# Altium integrated library Linear Technology Power Management LDO Linear Regulators.IntLib: 2339 symbols (part 22 of 131)
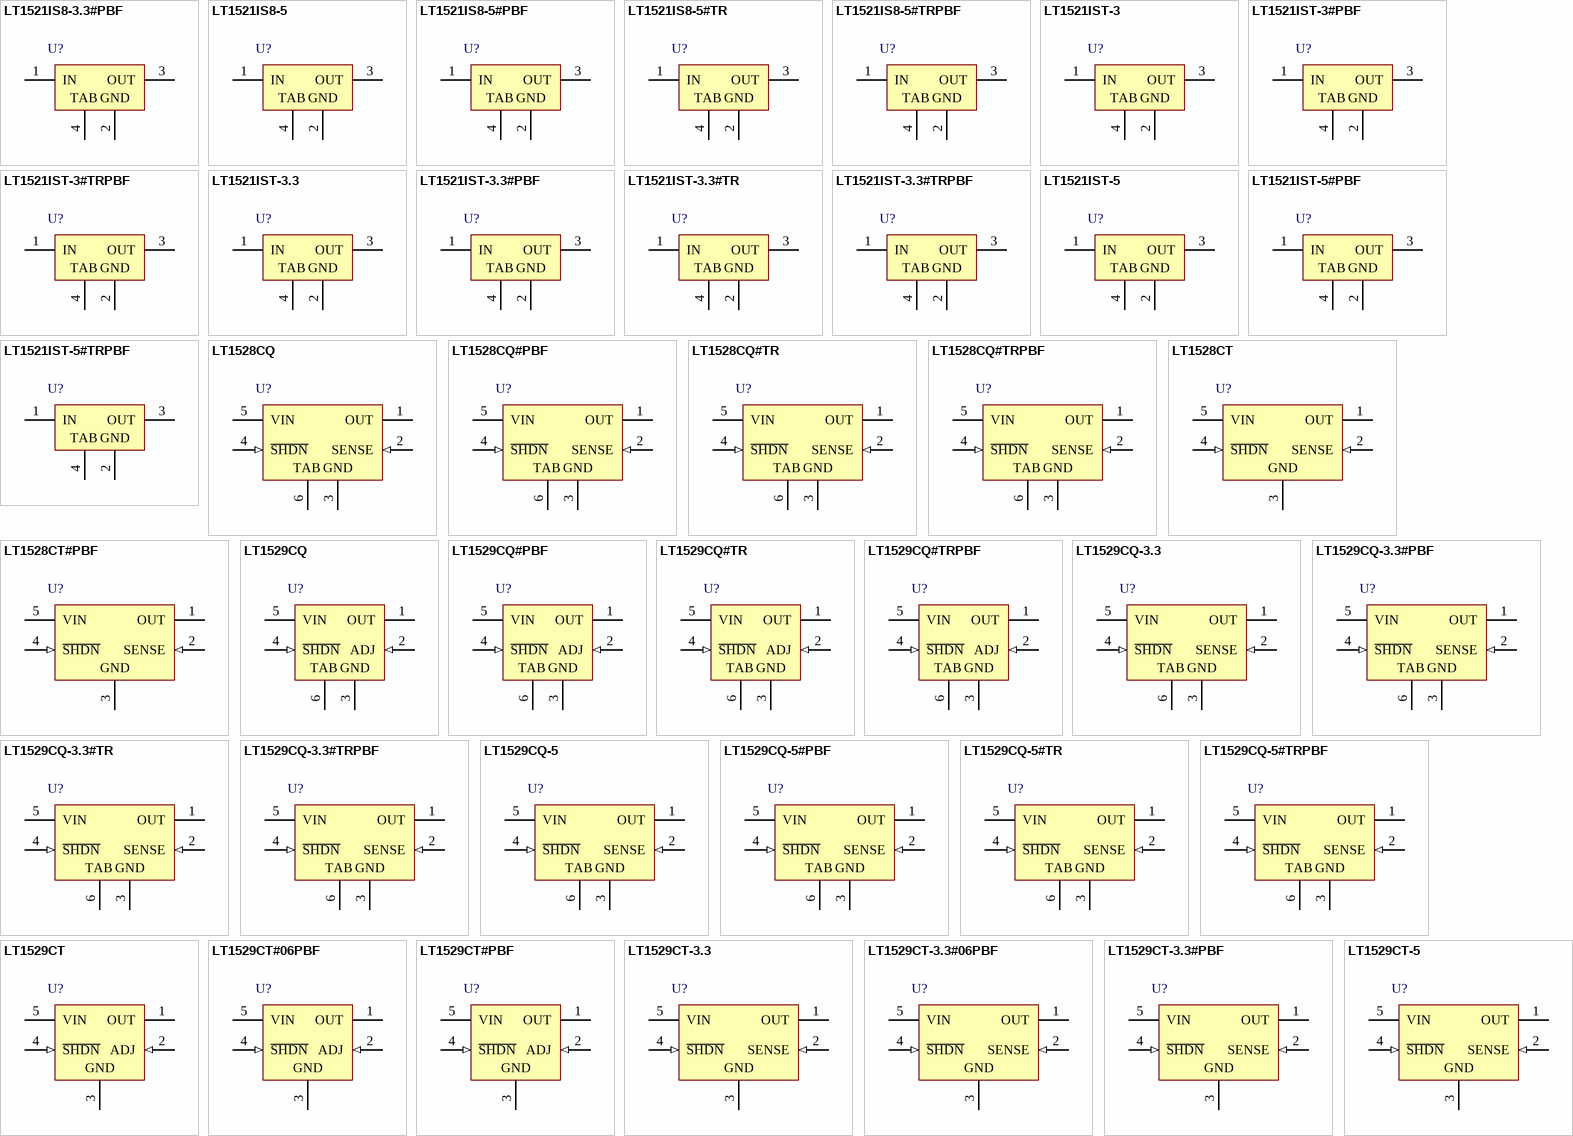
[diagram p90: symbols LT1521IS8-3.3#PBF to LT1529CT-5]

## LT1528CQ#PBF
designator U?
3 A Low Dropout Regulator for Microprocessor Applications, 3.9 to 15 V Vin, 3.3 Vout, 5-pin DPAK (Q-5), 0 to 125 degC, Pb-Free; Manufacturer: Linear Technology; PartNumber: LT1528CQ#PBF; Discrete Pass Element: no; Dropout Voltage(V): 0.57; Iout(mA): 3000; Isupply(mA): 0.4; Number of Outputs: 1; Output Voltage: 3.3; PSRR(dB): 67; Shutdown Current(uA): 110; Vin Max(V): 15; Vin Min(V): 3.9; DatasheetVersion: Rev. B; PackageVersion: Rev. F, 09/2011; PackageReference: Q-5; PackageDescription: 5-Pin Plastic DD Pak, Body 10.2235 x 8.89 mm, Pitch 1.702 mm; Supplier 1: Digi-Key; Supplier Part Number 1: LT1528CQ#PBF-ND; Supplier 2: Farnell; Supplier Part Number 2: 1615860; Supplier 3: Newark; Supplier Part Number 3: 57M4798; RoHS: TRUE; Mounting Technology: Surface Mount; ComponentLink1Description: Manufacturer URL; ComponentLink1URL: http://www.linear.com/; ComponentLink2Description: Datasheet; ComponentLink2URL: http://cds.linear.com/docs/en/datasheet/1528fb.pdf; ComponentLink3Description: Package Specification; ComponentLink3URL: http://cds.linear.com/docs/en/packaging/Q%20DD5%2005-08-1461%20Rev%20F.pdf
footprint LT-Q-5_N (DPAK, 5-Leads, Body 10.22x8.89mm, Pitch 1.702mm, IPC Medium Density)
footprint LT-Q-5_L (DPAK, 5-Leads, Body 10.22x8.89mm, Pitch 1.702mm, IPC High Density)
footprint LT-Q-5_M (DPAK, 5-Leads, Body 10.22x8.89mm, Pitch 1.702mm, IPC Low Density)
pins: 1 OUT (power) "OUTPUT Pin.", 2 SENSE (in) "SENSE Pin.", 3 GND (power), 4 ~{SHDN} (in) "Shutdown Pin. This pin is used to put the device into shutdown. In shutdown the output of the device is turned off. This pin is active low. The device will be shut down if the S\H\D\N\ pin is actively pulled low. The (See Datasheet)", 5 VIN (power) "Input Pin. Power is supplied to the device through the VIN pin. The VIN pin should be bypassed to ground if the device is more than six inches away from the main input filter capacitor. In general, the output impedance of a (See Datasheet)", 6 TAB (power)

## LT1528CQ#TR
designator U?
3 A Low Dropout Regulator for Microprocessor Applications, 3.9 to 15 V Vin, 3.3 Vout, 5-pin DPAK (Q-5), 0 to 125 degC, Tapa and Reel; Manufacturer: Linear Technology; PartNumber: LT1528CQ#TR; Discrete Pass Element: no; Dropout Voltage(V): 0.57; Iout(mA): 3000; Isupply(mA): 0.4; Number of Outputs: 1; Output Voltage: 3.3; PSRR(dB): 67; Shutdown Current(uA): 110; Vin Max(V): 15; Vin Min(V): 3.9; DatasheetVersion: Rev. B; PackageVersion: Rev. F, 09/2011; PackageReference: Q-5; PackageDescription: 5-Pin Plastic DD Pak, Body 10.2235 x 8.89 mm, Pitch 1.702 mm; Supplier 1: Digi-Key; Supplier Part Number 1: LT1528CQ#TR-ND; Packing: Tapa and Reel; RoHS: FALSE; Mounting Technology: Surface Mount; ComponentLink1Description: Manufacturer URL; ComponentLink1URL: http://www.linear.com/; ComponentLink2Description: Datasheet; ComponentLink2URL: http://cds.linear.com/docs/en/datasheet/1528fb.pdf; ComponentLink3Description: Package Specification; ComponentLink3URL: http://cds.linear.com/docs/en/packaging/Q%20DD5%2005-08-1461%20Rev%20F.pdf
footprint LT-Q-5_N (DPAK, 5-Leads, Body 10.22x8.89mm, Pitch 1.702mm, IPC Medium Density)
footprint LT-Q-5_L (DPAK, 5-Leads, Body 10.22x8.89mm, Pitch 1.702mm, IPC High Density)
footprint LT-Q-5_M (DPAK, 5-Leads, Body 10.22x8.89mm, Pitch 1.702mm, IPC Low Density)
pins: 1 OUT (power) "OUTPUT Pin.", 2 SENSE (in) "SENSE Pin.", 3 GND (power), 4 ~{SHDN} (in) "Shutdown Pin. This pin is used to put the device into shutdown. In shutdown the output of the device is turned off. This pin is active low. The device will be shut down if the S\H\D\N\ pin is actively pulled low. The (See Datasheet)", 5 VIN (power) "Input Pin. Power is supplied to the device through the VIN pin. The VIN pin should be bypassed to ground if the device is more than six inches away from the main input filter capacitor. In general, the output impedance of a (See Datasheet)", 6 TAB (power)

## LT1528CQ#TRPBF
designator U?
3 A Low Dropout Regulator for Microprocessor Applications, 3.9 to 15 V Vin, 3.3 Vout, 5-pin DPAK (Q-5), 0 to 125 degC, Pb-Free, Tape and Reel; Manufacturer: Linear Technology; PartNumber: LT1528CQ#TRPBF; Discrete Pass Element: no; Dropout Voltage(V): 0.57; Iout(mA): 3000; Isupply(mA): 0.4; Number of Outputs: 1; Output Voltage: 3.3; PSRR(dB): 67; Shutdown Current(uA): 110; Vin Max(V): 15; Vin Min(V): 3.9; DatasheetVersion: Rev. B; PackageVersion: Rev. F, 09/2011; PackageReference: Q-5; PackageDescription: 5-Pin Plastic DD Pak, Body 10.2235 x 8.89 mm, Pitch 1.702 mm; Supplier 1: Digi-Key; Supplier Part Number 1: LT1528CQ#TRPBF-ND; Supplier 2: Newark; Supplier Part Number 2: 57M4800; Packing: Tape and Reel; RoHS: TRUE; Mounting Technology: Surface Mount; ComponentLink1Description: Manufacturer URL; ComponentLink1URL: http://www.linear.com/; ComponentLink2Description: Datasheet; ComponentLink2URL: http://cds.linear.com/docs/en/datasheet/1528fb.pdf; ComponentLink3Description: Package Specification; ComponentLink3URL: http://cds.linear.com/docs/en/packaging/Q%20DD5%2005-08-1461%20Rev%20F.pdf
footprint LT-Q-5_N (DPAK, 5-Leads, Body 10.22x8.89mm, Pitch 1.702mm, IPC Medium Density)
footprint LT-Q-5_L (DPAK, 5-Leads, Body 10.22x8.89mm, Pitch 1.702mm, IPC High Density)
footprint LT-Q-5_M (DPAK, 5-Leads, Body 10.22x8.89mm, Pitch 1.702mm, IPC Low Density)
pins: 1 OUT (power) "OUTPUT Pin.", 2 SENSE (in) "SENSE Pin.", 3 GND (power), 4 ~{SHDN} (in) "Shutdown Pin. This pin is used to put the device into shutdown. In shutdown the output of the device is turned off. This pin is active low. The device will be shut down if the S\H\D\N\ pin is actively pulled low. The (See Datasheet)", 5 VIN (power) "Input Pin. Power is supplied to the device through the VIN pin. The VIN pin should be bypassed to ground if the device is more than six inches away from the main input filter capacitor. In general, the output impedance of a (See Datasheet)", 6 TAB (power)

## LT1528CT
designator U?
3 A Low Dropout Regulator for Microprocessor Applications, 3.9 to 15 V Vin, 3.3 Vout, 5-pin FM (T-5), 0 to 125 degC; Manufacturer: Linear Technology; PartNumber: LT1528CT; Discrete Pass Element: no; Dropout Voltage(V): 0.57; Iout(mA): 3000; Isupply(mA): 0.4; Number of Outputs: 1; Output Voltage: 3.3; PSRR(dB): 67; Shutdown Current(uA): 110; Vin Max(V): 15; Vin Min(V): 3.9; DatasheetVersion: Rev. B; PackageVersion: Aug-10; PackageReference: T-5; PackageDescription: 5-Pin Plastic TO-220 (Standard), Body 10.224 x 8.89 mm, Pitch 1.7 mm; Supplier 1: Digi-Key; Supplier Part Number 1: LT1528CT-ND; RoHS: FALSE; Mounting Technology: Through Hole; ComponentLink1Description: Manufacturer URL; ComponentLink1URL: http://www.linear.com/; ComponentLink2Description: Datasheet; ComponentLink2URL: http://cds.linear.com/docs/en/datasheet/1528fb.pdf; ComponentLink3Description: Package Specification; ComponentLink3URL: http://cds.linear.com/docs/en/packaging/TO-220_5_05-08-1421.pdf
footprint LT-T-5-S (FM, 5-Leads, Body 10.2235x4.3815mm, Pitch 1.7mm)
pins: 1 OUT (power) "OUTPUT Pin.", 2 SENSE (in), 3 GND (power), 4 ~{SHDN} (in) "Shutdown Pin.", 5 VIN (power) "Input Pin."

## LT1528CT#PBF
designator U?
3 A Low Dropout Regulator for Microprocessor Applications, 3.9 to 15 V Vin, 3.3 Vout, 5-pin FM (T-5), 0 to 125 degC, Pb-Free; Manufacturer: Linear Technology; PartNumber: LT1528CT#PBF; Discrete Pass Element: no; Dropout Voltage(V): 0.57; Iout(mA): 3000; Isupply(mA): 0.4; Number of Outputs: 1; Output Voltage: 3.3; PSRR(dB): 67; Shutdown Current(uA): 110; Vin Max(V): 15; Vin Min(V): 3.9; DatasheetVersion: Rev. B; PackageVersion: Aug-10; PackageReference: T-5; PackageDescription: 5-Pin Plastic TO-220 (Standard), Body 10.224 x 8.89 mm, Pitch 1.7 mm; Supplier 1: Digi-Key; Supplier Part Number 1: LT1528CT#PBF-ND; Supplier 2: Farnell; Supplier Part Number 2: 1273583; Supplier 3: Newark; Supplier Part Number 3: 57M4802; RoHS: TRUE; Mounting Technology: Through Hole; ComponentLink1Description: Manufacturer URL; ComponentLink1URL: http://www.linear.com/; ComponentLink2Description: Datasheet; ComponentLink2URL: http://cds.linear.com/docs/en/datasheet/1528fb.pdf; ComponentLink3Description: Package Specification; ComponentLink3URL: http://cds.linear.com/docs/en/packaging/TO-220_5_05-08-1421.pdf
footprint LT-T-5-S (FM, 5-Leads, Body 10.2235x4.3815mm, Pitch 1.7mm)
pins: 1 OUT (power) "OUTPUT Pin.", 2 SENSE (in), 3 GND (power), 4 ~{SHDN} (in) "Shutdown Pin.", 5 VIN (power) "Input Pin."

## LT1529CQ
designator U?
3 A Low Dropout Regulator with Micropower Quiescent Current and Shutdown, 3.8 to 15 V Vin, Adjustable Vout, 5-pin DPAK (Q-5), 0 to 125 degC; Manufacturer: Linear Technology; PartNumber: LT1529CQ; Discrete Pass Element: no; Dropout Voltage(V): 0.6; Iout(mA): 3000; Isupply(mA): 0.05; Number of Outputs: 1; Output Voltage: Adj; PSRR(dB): 62; Shutdown Current(uA): 15; Vin Min(V): 3.8; Vout Max(V): 14; DatasheetVersion: Rev. B; PackageVersion: Rev. F, 09/2011; PackageReference: Q-5; PackageDescription: 5-Pin Plastic DD Pak, Body 10.2235 x 8.89 mm, Pitch 1.702 mm; Supplier 1: Digi-Key; Supplier Part Number 1: LT1529CQ-ND; RoHS: FALSE; Vin Max(V): 15; Vout Min(V): 3.8; Mounting Technology: Surface Mount; ComponentLink1Description: Manufacturer URL; ComponentLink1URL: http://www.linear.com/; ComponentLink2Description: Datasheet; ComponentLink2URL: http://cds.linear.com/docs/en/datasheet/1529fb.pdf; ComponentLink3Description: Package Specification; ComponentLink3URL: http://cds.linear.com/docs/en/packaging/Q%20DD5%2005-08-1461%20Rev%20F.pdf
footprint LT-Q-5_N (DPAK, 5-Leads, Body 10.22x8.89mm, Pitch 1.702mm, IPC Medium Density)
footprint LT-Q-5_L (DPAK, 5-Leads, Body 10.22x8.89mm, Pitch 1.702mm, IPC High Density)
footprint LT-Q-5_M (DPAK, 5-Leads, Body 10.22x8.89mm, Pitch 1.702mm, IPC Low Density)
pins: 1 OUT (power) "OUTPUT Pin. The OUTPUT pin supplies power to the load. A minimum output capacitor of 22uF is required to prevent oscillations. Larger values will be required to optimize transient response for large load current deltas. See (See Datasheet)", 2 ADJ (in) "Adjust Pin. For the LT1529 (adjustable version) the ADJ pin is the input to the error amplifier. This pin is internally clamped to 6V and - 0.6V (one VBE). This pin has a bias current of 150nA which flows into the pin. See (See Datasheet)", 3 GND (power), 4 ~{SHDN} (in) "Shutdown Pin. This pin is used to put the device into shutdown. In shutdown the output of the device is turned off. This pin is active low. The device will be shut down if the S\H\D\N\ pin is actively pulled low. The (See Datasheet)", 5 VIN (power) "Input Pin. Power is supplied to the device through the VIN pin. The VIN pin should be bypassed to ground if the device is more than six inches away from the main input filter capacitor. In general, the output impedance of a (See Datasheet)", 6 TAB (power)

## LT1529CQ#PBF
designator U?
3 A Low Dropout Regulator with Micropower Quiescent Current and Shutdown, 3.8 to 15 V Vin, Adjustable Vout, 5-pin DPAK (Q-5), 0 to 125 degC, Pb-Free; Manufacturer: Linear Technology; PartNumber: LT1529CQ#PBF; Discrete Pass Element: no; Dropout Voltage(V): 0.6; Iout(mA): 3000; Isupply(mA): 0.05; Number of Outputs: 1; Output Voltage: Adj; PSRR(dB): 62; Shutdown Current(uA): 15; Vin Min(V): 3.8; Vout Max(V): 14; DatasheetVersion: Rev. B; PackageVersion: Rev. F, 09/2011; PackageReference: Q-5; PackageDescription: 5-Pin Plastic DD Pak, Body 10.2235 x 8.89 mm, Pitch 1.702 mm; Supplier 1: Digi-Key; Supplier Part Number 1: LT1529CQ#PBF-ND; Supplier 2: Farnell; Supplier Part Number 2: 1615859; Supplier 3: Newark; Supplier Part Number 3: 57M4812; RoHS: TRUE; Vin Max(V): 15; Vout Min(V): 3.8; Mounting Technology: Surface Mount; ComponentLink1Description: Manufacturer URL; ComponentLink1URL: http://www.linear.com/; ComponentLink2Description: Datasheet; ComponentLink2URL: http://cds.linear.com/docs/en/datasheet/1529fb.pdf; ComponentLink3Description: Package Specification; ComponentLink3URL: http://cds.linear.com/docs/en/packaging/Q%20DD5%2005-08-1461%20Rev%20F.pdf
footprint LT-Q-5_N (DPAK, 5-Leads, Body 10.22x8.89mm, Pitch 1.702mm, IPC Medium Density)
footprint LT-Q-5_L (DPAK, 5-Leads, Body 10.22x8.89mm, Pitch 1.702mm, IPC High Density)
footprint LT-Q-5_M (DPAK, 5-Leads, Body 10.22x8.89mm, Pitch 1.702mm, IPC Low Density)
pins: 1 OUT (power) "OUTPUT Pin. The OUTPUT pin supplies power to the load. A minimum output capacitor of 22uF is required to prevent oscillations. Larger values will be required to optimize transient response for large load current deltas. See (See Datasheet)", 2 ADJ (in) "Adjust Pin. For the LT1529 (adjustable version) the ADJ pin is the input to the error amplifier. This pin is internally clamped to 6V and - 0.6V (one VBE). This pin has a bias current of 150nA which flows into the pin. See (See Datasheet)", 3 GND (power), 4 ~{SHDN} (in) "Shutdown Pin. This pin is used to put the device into shutdown. In shutdown the output of the device is turned off. This pin is active low. The device will be shut down if the S\H\D\N\ pin is actively pulled low. The (See Datasheet)", 5 VIN (power) "Input Pin. Power is supplied to the device through the VIN pin. The VIN pin should be bypassed to ground if the device is more than six inches away from the main input filter capacitor. In general, the output impedance of a (See Datasheet)", 6 TAB (power)

## LT1529CQ#TR
designator U?
3 A Low Dropout Regulator with Micropower Quiescent Current and Shutdown, 3.8 to 15 V Vin, Adjustable Vout, 5-pin DPAK (Q-5), 0 to 125 degC, Tape and Reel; Manufacturer: Linear Technology; PartNumber: LT1529CQ#TR; Discrete Pass Element: no; Dropout Voltage(V): 0.6; Iout(mA): 3000; Isupply(mA): 0.05; Number of Outputs: 1; Output Voltage: Adj; PSRR(dB): 62; Shutdown Current(uA): 15; Vin Min(V): 3.8; Vout Max(V): 14; DatasheetVersion: Rev. B; PackageVersion: Rev. F, 09/2011; PackageReference: Q-5; PackageDescription: 5-Pin Plastic DD Pak, Body 10.2235 x 8.89 mm, Pitch 1.702 mm; Supplier 1: Digi-Key; Supplier Part Number 1: LT1529CQ#TR-ND; Packing: Tape and Reel; RoHS: FALSE; Vin Max(V): 15; Vout Min(V): 3.8; Mounting Technology: Surface Mount; ComponentLink1Description: Manufacturer URL; ComponentLink1URL: http://www.linear.com/; ComponentLink2Description: Datasheet; ComponentLink2URL: http://cds.linear.com/docs/en/datasheet/1529fb.pdf; ComponentLink3Description: Package Specification; ComponentLink3URL: http://cds.linear.com/docs/en/packaging/Q%20DD5%2005-08-1461%20Rev%20F.pdf
footprint LT-Q-5_N (DPAK, 5-Leads, Body 10.22x8.89mm, Pitch 1.702mm, IPC Medium Density)
footprint LT-Q-5_L (DPAK, 5-Leads, Body 10.22x8.89mm, Pitch 1.702mm, IPC High Density)
footprint LT-Q-5_M (DPAK, 5-Leads, Body 10.22x8.89mm, Pitch 1.702mm, IPC Low Density)
pins: 1 OUT (power) "OUTPUT Pin. The OUTPUT pin supplies power to the load. A minimum output capacitor of 22uF is required to prevent oscillations. Larger values will be required to optimize transient response for large load current deltas. See (See Datasheet)", 2 ADJ (in) "Adjust Pin. For the LT1529 (adjustable version) the ADJ pin is the input to the error amplifier. This pin is internally clamped to 6V and - 0.6V (one VBE). This pin has a bias current of 150nA which flows into the pin. See (See Datasheet)", 3 GND (power), 4 ~{SHDN} (in) "Shutdown Pin. This pin is used to put the device into shutdown. In shutdown the output of the device is turned off. This pin is active low. The device will be shut down if the S\H\D\N\ pin is actively pulled low. The (See Datasheet)", 5 VIN (power) "Input Pin. Power is supplied to the device through the VIN pin. The VIN pin should be bypassed to ground if the device is more than six inches away from the main input filter capacitor. In general, the output impedance of a (See Datasheet)", 6 TAB (power)

## LT1529CQ#TRPBF
designator U?
3 A Low Dropout Regulator with Micropower Quiescent Current and Shutdown, 3.8 to 15 V Vin, Adjustable Vout, 5-pin DPAK (Q-5), 0 to 125 degC, Pb-Free, Tape and Reel; Manufacturer: Linear Technology; PartNumber: LT1529CQ#TRPBF; Discrete Pass Element: no; Dropout Voltage(V): 0.6; Iout(mA): 3000; Isupply(mA): 0.05; Number of Outputs: 1; Output Voltage: Adj; PSRR(dB): 62; Shutdown Current(uA): 15; Vin Min(V): 3.8; Vout Max(V): 14; DatasheetVersion: Rev. B; PackageVersion: Rev. F, 09/2011; PackageReference: Q-5; PackageDescription: 5-Pin Plastic DD Pak, Body 10.2235 x 8.89 mm, Pitch 1.702 mm; Supplier 1: Digi-Key; Supplier Part Number 1: LT1529CQ#TRPBF-ND; Packing: Tape and Reel; RoHS: TRUE; Vin Max(V): 15; Vout Min(V): 3.8; Mounting Technology: Surface Mount; ComponentLink1Description: Manufacturer URL; ComponentLink1URL: http://www.linear.com/; ComponentLink2Description: Datasheet; ComponentLink2URL: http://cds.linear.com/docs/en/datasheet/1529fb.pdf; ComponentLink3Description: Package Specification; ComponentLink3URL: http://cds.linear.com/docs/en/packaging/Q%20DD5%2005-08-1461%20Rev%20F.pdf
footprint LT-Q-5_N (DPAK, 5-Leads, Body 10.22x8.89mm, Pitch 1.702mm, IPC Medium Density)
footprint LT-Q-5_L (DPAK, 5-Leads, Body 10.22x8.89mm, Pitch 1.702mm, IPC High Density)
footprint LT-Q-5_M (DPAK, 5-Leads, Body 10.22x8.89mm, Pitch 1.702mm, IPC Low Density)
pins: 1 OUT (power) "OUTPUT Pin. The OUTPUT pin supplies power to the load. A minimum output capacitor of 22uF is required to prevent oscillations. Larger values will be required to optimize transient response for large load current deltas. See (See Datasheet)", 2 ADJ (in) "Adjust Pin. For the LT1529 (adjustable version) the ADJ pin is the input to the error amplifier. This pin is internally clamped to 6V and - 0.6V (one VBE). This pin has a bias current of 150nA which flows into the pin. See (See Datasheet)", 3 GND (power), 4 ~{SHDN} (in) "Shutdown Pin. This pin is used to put the device into shutdown. In shutdown the output of the device is turned off. This pin is active low. The device will be shut down if the S\H\D\N\ pin is actively pulled low. The (See Datasheet)", 5 VIN (power) "Input Pin. Power is supplied to the device through the VIN pin. The VIN pin should be bypassed to ground if the device is more than six inches away from the main input filter capacitor. In general, the output impedance of a (See Datasheet)", 6 TAB (power)

## LT1529CQ-3.3
designator U?
3 A Low Dropout Regulator with Micropower Quiescent Current and Shutdown, 3.8 to 15 V Vin, 3.3 V Vout, 5-pin DPAK (Q-5), 0 to 125 degC; Manufacturer: Linear Technology; PartNumber: LT1529CQ-3.3; Discrete Pass Element: no; Dropout Voltage(V): 0.6; Iout(mA): 3000; Isupply(mA): 0.05; Number of Outputs: 1; Output Voltage: 3.3 V; PSRR(dB): 62; Shutdown Current(uA): 15; Vin Min(V): 3.8; DatasheetVersion: Rev. B; PackageVersion: Rev. F, 09/2011; PackageReference: Q-5; PackageDescription: 5-Pin Plastic DD Pak, Body 10.2235 x 8.89 mm, Pitch 1.702 mm; Supplier 1: Digi-Key; Supplier Part Number 1: LT1529CQ-3.3-ND; Supplier 2: Newark; Supplier Part Number 2: 57M4804; RoHS: FALSE; Vin Max(V): 15; Mounting Technology: Surface Mount; ComponentLink1Description: Manufacturer URL; ComponentLink1URL: http://www.linear.com/; ComponentLink2Description: Datasheet; ComponentLink2URL: http://cds.linear.com/docs/en/datasheet/1529fb.pdf; ComponentLink3Description: Package Specification; ComponentLink3URL: http://cds.linear.com/docs/en/packaging/Q%20DD5%2005-08-1461%20Rev%20F.pdf
footprint LT-Q-5_N (DPAK, 5-Leads, Body 10.22x8.89mm, Pitch 1.702mm, IPC Medium Density)
footprint LT-Q-5_L (DPAK, 5-Leads, Body 10.22x8.89mm, Pitch 1.702mm, IPC High Density)
footprint LT-Q-5_M (DPAK, 5-Leads, Body 10.22x8.89mm, Pitch 1.702mm, IPC Low Density)
pins: 1 OUT (power) "OUTPUT Pin.", 2 SENSE (in) "SENSE Pin.", 3 GND (power), 4 ~{SHDN} (in) "Shutdown Pin. This pin is used to put the device into shutdown. In shutdown the output of the device is turned off. This pin is active low. The device will be shut down if the S\H\D\N\ pin is actively pulled low. The (See Datasheet)", 5 VIN (power) "Input Pin. Power is supplied to the device through the VIN pin. The VIN pin should be bypassed to ground if the device is more than six inches away from the main input filter capacitor. In general, the output impedance of a (See Datasheet)", 6 TAB (power)

## LT1529CQ-3.3#PBF
designator U?
3 A Low Dropout Regulator with Micropower Quiescent Current and Shutdown, 3.8 to 15 V Vin, 3.3 V Vout, 5-pin DPAK (Q-5), 0 to 125 degC, Pb-Free; Manufacturer: Linear Technology; PartNumber: LT1529CQ-3.3#PBF; Discrete Pass Element: no; Dropout Voltage(V): 0.6; Iout(mA): 3000; Isupply(mA): 0.05; Number of Outputs: 1; Output Voltage: 3.3 V; PSRR(dB): 62; Shutdown Current(uA): 15; Vin Min(V): 3.8; DatasheetVersion: Rev. B; PackageVersion: Rev. F, 09/2011; PackageReference: Q-5; PackageDescription: 5-Pin Plastic DD Pak, Body 10.2235 x 8.89 mm, Pitch 1.702 mm; Supplier 1: Digi-Key; Supplier Part Number 1: LT1529CQ-3.3#PBF-ND; Supplier 2: Farnell; Supplier Part Number 2: 1615857; Supplier 3: Newark; Supplier Part Number 3: 57M4805; RoHS: TRUE; Vin Max(V): 15; Mounting Technology: Surface Mount; ComponentLink1Description: Manufacturer URL; ComponentLink1URL: http://www.linear.com/; ComponentLink2Description: Datasheet; ComponentLink2URL: http://cds.linear.com/docs/en/datasheet/1529fb.pdf; ComponentLink3Description: Package Specification; ComponentLink3URL: http://cds.linear.com/docs/en/packaging/Q%20DD5%2005-08-1461%20Rev%20F.pdf
footprint LT-Q-5_N (DPAK, 5-Leads, Body 10.22x8.89mm, Pitch 1.702mm, IPC Medium Density)
footprint LT-Q-5_L (DPAK, 5-Leads, Body 10.22x8.89mm, Pitch 1.702mm, IPC High Density)
footprint LT-Q-5_M (DPAK, 5-Leads, Body 10.22x8.89mm, Pitch 1.702mm, IPC Low Density)
pins: 1 OUT (power) "OUTPUT Pin.", 2 SENSE (in) "SENSE Pin.", 3 GND (power), 4 ~{SHDN} (in) "Shutdown Pin. This pin is used to put the device into shutdown. In shutdown the output of the device is turned off. This pin is active low. The device will be shut down if the S\H\D\N\ pin is actively pulled low. The (See Datasheet)", 5 VIN (power) "Input Pin. Power is supplied to the device through the VIN pin. The VIN pin should be bypassed to ground if the device is more than six inches away from the main input filter capacitor. In general, the output impedance of a (See Datasheet)", 6 TAB (power)

## LT1529CQ-3.3#TR
designator U?
3 A Low Dropout Regulator with Micropower Quiescent Current and Shutdown, 3.8 to 15 V Vin, 3.3 V Vout, 5-pin DPAK (Q-5), 0 to 125 degC, Tape and Reel; Manufacturer: Linear Technology; PartNumber: LT1529CQ-3.3#TR; Discrete Pass Element: no; Dropout Voltage(V): 0.6; Iout(mA): 3000; Isupply(mA): 0.05; Number of Outputs: 1; Output Voltage: 3.3 V; PSRR(dB): 62; Shutdown Current(uA): 15; Vin Min(V): 3.8; DatasheetVersion: Rev. B; PackageVersion: Rev. F, 09/2011; PackageReference: Q-5; PackageDescription: 5-Pin Plastic DD Pak, Body 10.2235 x 8.89 mm, Pitch 1.702 mm; Supplier 1: Digi-Key; Supplier Part Number 1: LT1529CQ-3.3#TR-ND; Packing: Tape and Reel; RoHS: FALSE; Vin Max(V): 15; Mounting Technology: Surface Mount; ComponentLink1Description: Manufacturer URL; ComponentLink1URL: http://www.linear.com/; ComponentLink2Description: Datasheet; ComponentLink2URL: http://cds.linear.com/docs/en/datasheet/1529fb.pdf; ComponentLink3Description: Package Specification; ComponentLink3URL: http://cds.linear.com/docs/en/packaging/Q%20DD5%2005-08-1461%20Rev%20F.pdf
footprint LT-Q-5_N (DPAK, 5-Leads, Body 10.22x8.89mm, Pitch 1.702mm, IPC Medium Density)
footprint LT-Q-5_L (DPAK, 5-Leads, Body 10.22x8.89mm, Pitch 1.702mm, IPC High Density)
footprint LT-Q-5_M (DPAK, 5-Leads, Body 10.22x8.89mm, Pitch 1.702mm, IPC Low Density)
pins: 1 OUT (power) "OUTPUT Pin.", 2 SENSE (in) "SENSE Pin.", 3 GND (power), 4 ~{SHDN} (in) "Shutdown Pin. This pin is used to put the device into shutdown. In shutdown the output of the device is turned off. This pin is active low. The device will be shut down if the S\H\D\N\ pin is actively pulled low. The (See Datasheet)", 5 VIN (power) "Input Pin. Power is supplied to the device through the VIN pin. The VIN pin should be bypassed to ground if the device is more than six inches away from the main input filter capacitor. In general, the output impedance of a (See Datasheet)", 6 TAB (power)

## LT1529CQ-3.3#TRPBF
designator U?
3 A Low Dropout Regulator with Micropower Quiescent Current and Shutdown, 3.8 to 15 V Vin, 3.3 V Vout, 5-pin DPAK (Q-5), 0 to 125 degC, Pb-Free, Tape and Reel; Manufacturer: Linear Technology; PartNumber: LT1529CQ-3.3#TRPBF; Discrete Pass Element: no; Dropout Voltage(V): 0.6; Iout(mA): 3000; Isupply(mA): 0.05; Number of Outputs: 1; Output Voltage: 3.3 V; PSRR(dB): 62; Shutdown Current(uA): 15; Vin Min(V): 3.8; DatasheetVersion: Rev. B; PackageVersion: Rev. F, 09/2011; PackageReference: Q-5; PackageDescription: 5-Pin Plastic DD Pak, Body 10.2235 x 8.89 mm, Pitch 1.702 mm; Supplier 1: Digi-Key; Supplier Part Number 1: LT1529CQ-3.3#TRPBF-ND; Packing: Tape and Reel; RoHS: TRUE; Vin Max(V): 15; Mounting Technology: Surface Mount; ComponentLink1Description: Manufacturer URL; ComponentLink1URL: http://www.linear.com/; ComponentLink2Description: Datasheet; ComponentLink2URL: http://cds.linear.com/docs/en/datasheet/1529fb.pdf; ComponentLink3Description: Package Specification; ComponentLink3URL: http://cds.linear.com/docs/en/packaging/Q%20DD5%2005-08-1461%20Rev%20F.pdf
footprint LT-Q-5_N (DPAK, 5-Leads, Body 10.22x8.89mm, Pitch 1.702mm, IPC Medium Density)
footprint LT-Q-5_L (DPAK, 5-Leads, Body 10.22x8.89mm, Pitch 1.702mm, IPC High Density)
footprint LT-Q-5_M (DPAK, 5-Leads, Body 10.22x8.89mm, Pitch 1.702mm, IPC Low Density)
pins: 1 OUT (power) "OUTPUT Pin.", 2 SENSE (in) "SENSE Pin.", 3 GND (power), 4 ~{SHDN} (in) "Shutdown Pin. This pin is used to put the device into shutdown. In shutdown the output of the device is turned off. This pin is active low. The device will be shut down if the S\H\D\N\ pin is actively pulled low. The (See Datasheet)", 5 VIN (power) "Input Pin. Power is supplied to the device through the VIN pin. The VIN pin should be bypassed to ground if the device is more than six inches away from the main input filter capacitor. In general, the output impedance of a (See Datasheet)", 6 TAB (power)

## LT1529CQ-5
designator U?
3 A Low Dropout Regulator with Micropower Quiescent Current and Shutdown, 3.8 to 15 V Vin, 5 V Vout, 5-pin DPAK (Q-5), 0 to 125 degC; Manufacturer: Linear Technology; PartNumber: LT1529CQ-5; Discrete Pass Element: no; Dropout Voltage(V): 0.6; Iout(mA): 3000; Isupply(mA): 0.05; Number of Outputs: 1; Output Voltage: 5 V; PSRR(dB): 62; Shutdown Current(uA): 15; Vin Min(V): 3.8; DatasheetVersion: Rev. B; PackageVersion: Rev. F, 09/2011; PackageReference: Q-5; PackageDescription: 5-Pin Plastic DD Pak, Body 10.2235 x 8.89 mm, Pitch 1.702 mm; Supplier 1: Digi-Key; Supplier Part Number 1: LT1529CQ-5-ND; Supplier 2: Newark; Supplier Part Number 2: 57M4808; RoHS: FALSE; Vin Max(V): 15; Mounting Technology: Surface Mount; ComponentLink1Description: Manufacturer URL; ComponentLink1URL: http://www.linear.com/; ComponentLink2Description: Datasheet; ComponentLink2URL: http://cds.linear.com/docs/en/datasheet/1529fb.pdf; ComponentLink3Description: Package Specification; ComponentLink3URL: http://cds.linear.com/docs/en/packaging/Q%20DD5%2005-08-1461%20Rev%20F.pdf
footprint LT-Q-5_N (DPAK, 5-Leads, Body 10.22x8.89mm, Pitch 1.702mm, IPC Medium Density)
footprint LT-Q-5_L (DPAK, 5-Leads, Body 10.22x8.89mm, Pitch 1.702mm, IPC High Density)
footprint LT-Q-5_M (DPAK, 5-Leads, Body 10.22x8.89mm, Pitch 1.702mm, IPC Low Density)
pins: 1 OUT (power) "OUTPUT Pin.", 2 SENSE (in) "SENSE Pin.", 3 GND (power), 4 ~{SHDN} (in) "Shutdown Pin. This pin is used to put the device into shutdown. In shutdown the output of the device is turned off. This pin is active low. The device will be shut down if the S\H\D\N\ pin is actively pulled low. The (See Datasheet)", 5 VIN (power) "Input Pin. Power is supplied to the device through the VIN pin. The VIN pin should be bypassed to ground if the device is more than six inches away from the main input filter capacitor. In general, the output impedance of a (See Datasheet)", 6 TAB (power)

## LT1529CQ-5#PBF
designator U?
3 A Low Dropout Regulator with Micropower Quiescent Current and Shutdown, 3.8 to 15 V Vin, 5 V Vout, 5-pin DPAK (Q-5), 0 to 125 degC, Pb-Free; Manufacturer: Linear Technology; PartNumber: LT1529CQ-5#PBF; Discrete Pass Element: no; Dropout Voltage(V): 0.6; Iout(mA): 3000; Isupply(mA): 0.05; Number of Outputs: 1; Output Voltage: 5 V; PSRR(dB): 62; Shutdown Current(uA): 15; Vin Min(V): 3.8; DatasheetVersion: Rev. B; PackageVersion: Rev. F, 09/2011; PackageReference: Q-5; PackageDescription: 5-Pin Plastic DD Pak, Body 10.2235 x 8.89 mm, Pitch 1.702 mm; Supplier 1: Digi-Key; Supplier Part Number 1: LT1529CQ-5#PBF-ND; Supplier 2: Farnell; Supplier Part Number 2: 1615858; Supplier 3: Newark; Supplier Part Number 3: 57M4809; RoHS: TRUE; Vin Max(V): 15; Mounting Technology: Surface Mount; ComponentLink1Description: Manufacturer URL; ComponentLink1URL: http://www.linear.com/; ComponentLink2Description: Datasheet; ComponentLink2URL: http://cds.linear.com/docs/en/datasheet/1529fb.pdf; ComponentLink3Description: Package Specification; ComponentLink3URL: http://cds.linear.com/docs/en/packaging/Q%20DD5%2005-08-1461%20Rev%20F.pdf
footprint LT-Q-5_N (DPAK, 5-Leads, Body 10.22x8.89mm, Pitch 1.702mm, IPC Medium Density)
footprint LT-Q-5_L (DPAK, 5-Leads, Body 10.22x8.89mm, Pitch 1.702mm, IPC High Density)
footprint LT-Q-5_M (DPAK, 5-Leads, Body 10.22x8.89mm, Pitch 1.702mm, IPC Low Density)
pins: 1 OUT (power) "OUTPUT Pin.", 2 SENSE (in) "SENSE Pin.", 3 GND (power), 4 ~{SHDN} (in) "Shutdown Pin. This pin is used to put the device into shutdown. In shutdown the output of the device is turned off. This pin is active low. The device will be shut down if the S\H\D\N\ pin is actively pulled low. The (See Datasheet)", 5 VIN (power) "Input Pin. Power is supplied to the device through the VIN pin. The VIN pin should be bypassed to ground if the device is more than six inches away from the main input filter capacitor. In general, the output impedance of a (See Datasheet)", 6 TAB (power)

## LT1529CQ-5#TR
designator U?
3 A Low Dropout Regulator with Micropower Quiescent Current and Shutdown, 3.8 to 15 V Vin, 5 V Vout, 5-pin DPAK (Q-5), 0 to 125 degC, Tape and Reel; Manufacturer: Linear Technology; PartNumber: LT1529CQ-5#TR; Discrete Pass Element: no; Dropout Voltage(V): 0.6; Iout(mA): 3000; Isupply(mA): 0.05; Number of Outputs: 1; Output Voltage: 5 V; PSRR(dB): 62; Shutdown Current(uA): 15; Vin Min(V): 3.8; DatasheetVersion: Rev. B; PackageVersion: Rev. F, 09/2011; PackageReference: Q-5; PackageDescription: 5-Pin Plastic DD Pak, Body 10.2235 x 8.89 mm, Pitch 1.702 mm; Supplier 1: Digi-Key; Supplier Part Number 1: LT1529CQ-5#TR-ND; Packing: Tape and Reel; RoHS: FALSE; Vin Max(V): 15; Mounting Technology: Surface Mount; ComponentLink1Description: Manufacturer URL; ComponentLink1URL: http://www.linear.com/; ComponentLink2Description: Datasheet; ComponentLink2URL: http://cds.linear.com/docs/en/datasheet/1529fb.pdf; ComponentLink3Description: Package Specification; ComponentLink3URL: http://cds.linear.com/docs/en/packaging/Q%20DD5%2005-08-1461%20Rev%20F.pdf
footprint LT-Q-5_N (DPAK, 5-Leads, Body 10.22x8.89mm, Pitch 1.702mm, IPC Medium Density)
footprint LT-Q-5_L (DPAK, 5-Leads, Body 10.22x8.89mm, Pitch 1.702mm, IPC High Density)
footprint LT-Q-5_M (DPAK, 5-Leads, Body 10.22x8.89mm, Pitch 1.702mm, IPC Low Density)
pins: 1 OUT (power) "OUTPUT Pin.", 2 SENSE (in) "SENSE Pin.", 3 GND (power), 4 ~{SHDN} (in) "Shutdown Pin. This pin is used to put the device into shutdown. In shutdown the output of the device is turned off. This pin is active low. The device will be shut down if the S\H\D\N\ pin is actively pulled low. The (See Datasheet)", 5 VIN (power) "Input Pin. Power is supplied to the device through the VIN pin. The VIN pin should be bypassed to ground if the device is more than six inches away from the main input filter capacitor. In general, the output impedance of a (See Datasheet)", 6 TAB (power)

## LT1529CQ-5#TRPBF
designator U?
3 A Low Dropout Regulator with Micropower Quiescent Current and Shutdown, 3.8 to 15 V Vin, 5 V Vout, 5-pin DPAK (Q-5), 0 to 125 degC, Pb-Free, Tape and Reel; Manufacturer: Linear Technology; PartNumber: LT1529CQ-5#TRPBF; Discrete Pass Element: no; Dropout Voltage(V): 0.6; Iout(mA): 3000; Isupply(mA): 0.05; Number of Outputs: 1; Output Voltage: 5 V; PSRR(dB): 62; Shutdown Current(uA): 15; Vin Min(V): 3.8; DatasheetVersion: Rev. B; PackageVersion: Rev. F, 09/2011; PackageReference: Q-5; PackageDescription: 5-Pin Plastic DD Pak, Body 10.2235 x 8.89 mm, Pitch 1.702 mm; Supplier 1: Digi-Key; Supplier Part Number 1: LT1529CQ-5#TRPBF-ND; Supplier 2: Newark; Supplier Part Number 2: 57M4811; Packing: Tape and Reel; RoHS: TRUE; Vin Max(V): 15; Mounting Technology: Surface Mount; ComponentLink1Description: Manufacturer URL; ComponentLink1URL: http://www.linear.com/; ComponentLink2Description: Datasheet; ComponentLink2URL: http://cds.linear.com/docs/en/datasheet/1529fb.pdf; ComponentLink3Description: Package Specification; ComponentLink3URL: http://cds.linear.com/docs/en/packaging/Q%20DD5%2005-08-1461%20Rev%20F.pdf
footprint LT-Q-5_N (DPAK, 5-Leads, Body 10.22x8.89mm, Pitch 1.702mm, IPC Medium Density)
footprint LT-Q-5_L (DPAK, 5-Leads, Body 10.22x8.89mm, Pitch 1.702mm, IPC High Density)
footprint LT-Q-5_M (DPAK, 5-Leads, Body 10.22x8.89mm, Pitch 1.702mm, IPC Low Density)
pins: 1 OUT (power) "OUTPUT Pin.", 2 SENSE (in) "SENSE Pin.", 3 GND (power), 4 ~{SHDN} (in) "Shutdown Pin. This pin is used to put the device into shutdown. In shutdown the output of the device is turned off. This pin is active low. The device will be shut down if the S\H\D\N\ pin is actively pulled low. The (See Datasheet)", 5 VIN (power) "Input Pin. Power is supplied to the device through the VIN pin. The VIN pin should be bypassed to ground if the device is more than six inches away from the main input filter capacitor. In general, the output impedance of a (See Datasheet)", 6 TAB (power)

## LT1529CT
designator U?
3 A Low Dropout Regulator with Micropower Quiescent Current and Shutdown, 3.8 to 15 V Vin, Adjustable Vout, 5-pin FM (T-5), 0 to 125 degC; Manufacturer: Linear Technology; PartNumber: LT1529CT; Discrete Pass Element: no; Dropout Voltage(V): 0.6; Iout(mA): 3000; Isupply(mA): 0.05; Number of Outputs: 1; Output Voltage: Adj; PSRR(dB): 62; Shutdown Current(uA): 15; Vin Min(V): 3.8; Vout Max(V): 14; DatasheetVersion: Rev. B; PackageVersion: Aug-10; PackageReference: T-5; PackageDescription: 5-Pin Plastic TO-220 (Standard), Body 10.224 x 8.89 mm, Pitch 1.7 mm; Supplier 1: Digi-Key; Supplier Part Number 1: LT1529CT-ND; RoHS: FALSE; Vin Max(V): 15; Vout Min(V): 3.8; Mounting Technology: Through Hole; ComponentLink1Description: Manufacturer URL; ComponentLink1URL: http://www.linear.com/; ComponentLink2Description: Datasheet; ComponentLink2URL: http://cds.linear.com/docs/en/datasheet/1529fb.pdf; ComponentLink3Description: Package Specification; ComponentLink3URL: http://cds.linear.com/docs/en/packaging/TO-220_5_05-08-1421.pdf
footprint LT-T-5-S (FM, 5-Leads, Body 10.2235x4.3815mm, Pitch 1.7mm)
pins: 1 OUT (power), 2 ADJ (in), 3 GND (power), 4 ~{SHDN} (in), 5 VIN (power)

## LT1529CT#06PBF
designator U?
3 A Low Dropout Regulator with Micropower Quiescent Current and Shutdown, 3.8 to 15 V Vin, Adjustable Vout, 5-pin FM (T-5), 0 to 125 degC, Pb-Free; Manufacturer: Linear Technology; PartNumber: LT1529CT#06PBF; Discrete Pass Element: no; Dropout Voltage(V): 0.6; Iout(mA): 3000; Isupply(mA): 0.05; Number of Outputs: 1; Output Voltage: Adj; PSRR(dB): 62; Shutdown Current(uA): 15; Vin Min(V): 3.8; Vout Max(V): 14; DatasheetVersion: Rev. B; PackageVersion: Aug-10; PackageReference: T-5; PackageDescription: 5-Pin Plastic TO-220 (Standard), Body 10.224 x 8.89 mm, Pitch 1.7 mm; Supplier 1: Digi-Key; Supplier Part Number 1: LT1529CT#06PBF-ND; RoHS: TRUE; Vin Max(V): 15; Vout Min(V): 3.8; Mounting Technology: Through Hole; ComponentLink1Description: Manufacturer URL; ComponentLink1URL: http://www.linear.com/; ComponentLink2Description: Datasheet; ComponentLink2URL: http://cds.linear.com/docs/en/datasheet/1529fb.pdf; ComponentLink3Description: Package Specification; ComponentLink3URL: http://cds.linear.com/docs/en/packaging/TO-220_5_05-08-1421.pdf
footprint LT-T-5-S (FM, 5-Leads, Body 10.2235x4.3815mm, Pitch 1.7mm)
pins: 1 OUT (power), 2 ADJ (in), 3 GND (power), 4 ~{SHDN} (in), 5 VIN (power)

## LT1529CT#PBF
designator U?
3 A Low Dropout Regulator with Micropower Quiescent Current and Shutdown, 3.8 to 15 V Vin, Adjustable Vout, 5-pin FM (T-5), 0 to 125 degC, Pb-Free; Manufacturer: Linear Technology; PartNumber: LT1529CT#PBF; Discrete Pass Element: no; Dropout Voltage(V): 0.6; Iout(mA): 3000; Isupply(mA): 0.05; Number of Outputs: 1; Output Voltage: Adj; PSRR(dB): 62; Shutdown Current(uA): 15; Vin Min(V): 3.8; Vout Max(V): 14; DatasheetVersion: Rev. B; PackageVersion: Aug-10; PackageReference: T-5; PackageDescription: 5-Pin Plastic TO-220 (Standard), Body 10.224 x 8.89 mm, Pitch 1.7 mm; Supplier 1: Digi-Key; Supplier Part Number 1: LT1529CT#PBF-ND; Supplier 2: Farnell; Supplier Part Number 2: 9560629; Supplier 3: Newark; Supplier Part Number 3: 57M4821; RoHS: TRUE; Vin Max(V): 15; Vout Min(V): 3.8; Mounting Technology: Through Hole; ComponentLink1Description: Manufacturer URL; ComponentLink1URL: http://www.linear.com/; ComponentLink2Description: Datasheet; ComponentLink2URL: http://cds.linear.com/docs/en/datasheet/1529fb.pdf; ComponentLink3Description: Package Specification; ComponentLink3URL: http://cds.linear.com/docs/en/packaging/TO-220_5_05-08-1421.pdf
footprint LT-T-5-S (FM, 5-Leads, Body 10.2235x4.3815mm, Pitch 1.7mm)
pins: 1 OUT (power), 2 ADJ (in), 3 GND (power), 4 ~{SHDN} (in), 5 VIN (power)

## LT1529CT-3.3
designator U?
3 A Low Dropout Regulator with Micropower Quiescent Current and Shutdown, 3.8 to 15 V Vin, 3.3 V Vout, 5-pin FM (T-5), 0 to 125 degC; Manufacturer: Linear Technology; PartNumber: LT1529CT-3.3; Discrete Pass Element: no; Dropout Voltage(V): 0.6; Iout(mA): 3000; Isupply(mA): 0.05; Number of Outputs: 1; Output Voltage: 3.3 V; PSRR(dB): 62; Shutdown Current(uA): 15; Vin Min(V): 3.8; DatasheetVersion: Rev. B; PackageVersion: Aug-10; PackageReference: T-5; PackageDescription: 5-Pin Plastic TO-220 (Standard), Body 10.224 x 8.89 mm, Pitch 1.7 mm; RoHS: FALSE; Vin Max(V): 15; Mounting Technology: Through Hole; ComponentLink1Description: Manufacturer URL; ComponentLink1URL: http://www.linear.com/; ComponentLink2Description: Datasheet; ComponentLink2URL: http://cds.linear.com/docs/en/datasheet/1529fb.pdf; ComponentLink3Description: Package Specification; ComponentLink3URL: http://cds.linear.com/docs/en/packaging/TO-220_5_05-08-1421.pdf
footprint LT-T-5-S (FM, 5-Leads, Body 10.2235x4.3815mm, Pitch 1.7mm)
pins: 1 OUT (power) "OUTPUT Pin.", 2 SENSE (in), 3 GND (power), 4 ~{SHDN} (in) "Shutdown Pin.", 5 VIN (power) "Input Pin."

## LT1529CT-3.3#06PBF
designator U?
3 A Low Dropout Regulator with Micropower Quiescent Current and Shutdown, 3.8 to 15 V Vin, 3.3 V Vout, 5-pin FM (T-5), 0 to 125 degC, Pb-Free; Manufacturer: Linear Technology; PartNumber: LT1529CT-3.3#06PBF; Discrete Pass Element: no; Dropout Voltage(V): 0.6; Iout(mA): 3000; Isupply(mA): 0.05; Number of Outputs: 1; Output Voltage: 3.3 V; PSRR(dB): 62; Shutdown Current(uA): 15; Vin Min(V): 3.8; DatasheetVersion: Rev. B; PackageVersion: Aug-10; PackageReference: T-5; PackageDescription: 5-Pin Plastic TO-220 (Standard), Body 10.224 x 8.89 mm, Pitch 1.7 mm; Supplier 1: Digi-Key; Supplier Part Number 1: LT1529CT-3.3#06PBF-ND; Supplier 2: Newark; Supplier Part Number 2: 27W9521; RoHS: TRUE; Vin Max(V): 15; Mounting Technology: Through Hole; ComponentLink1Description: Manufacturer URL; ComponentLink1URL: http://www.linear.com/; ComponentLink2Description: Datasheet; ComponentLink2URL: http://cds.linear.com/docs/en/datasheet/1529fb.pdf; ComponentLink3Description: Package Specification; ComponentLink3URL: http://cds.linear.com/docs/en/packaging/TO-220_5_05-08-1421.pdf
footprint LT-T-5-S (FM, 5-Leads, Body 10.2235x4.3815mm, Pitch 1.7mm)
pins: 1 OUT (power) "OUTPUT Pin.", 2 SENSE (in), 3 GND (power), 4 ~{SHDN} (in) "Shutdown Pin.", 5 VIN (power) "Input Pin."

## LT1529CT-3.3#PBF
designator U?
3 A Low Dropout Regulator with Micropower Quiescent Current and Shutdown, 3.8 to 15 V Vin, 3.3 V Vout, 5-pin FM (T-5), 0 to 125 degC, Pb-Free; Manufacturer: Linear Technology; PartNumber: LT1529CT-3.3#PBF; Discrete Pass Element: no; Dropout Voltage(V): 0.6; Iout(mA): 3000; Isupply(mA): 0.05; Number of Outputs: 1; Output Voltage: 3.3 V; PSRR(dB): 62; Shutdown Current(uA): 15; Vin Min(V): 3.8; DatasheetVersion: Rev. B; PackageVersion: Aug-10; PackageReference: T-5; PackageDescription: 5-Pin Plastic TO-220 (Standard), Body 10.224 x 8.89 mm, Pitch 1.7 mm; Supplier 1: Digi-Key; Supplier Part Number 1: LT1529CT-3.3#PBF-ND; RoHS: TRUE; Vin Max(V): 15; Mounting Technology: Through Hole; ComponentLink1Description: Manufacturer URL; ComponentLink1URL: http://www.linear.com/; ComponentLink2Description: Datasheet; ComponentLink2URL: http://cds.linear.com/docs/en/datasheet/1529fb.pdf; ComponentLink3Description: Package Specification; ComponentLink3URL: http://cds.linear.com/docs/en/packaging/TO-220_5_05-08-1421.pdf
footprint LT-T-5-S (FM, 5-Leads, Body 10.2235x4.3815mm, Pitch 1.7mm)
pins: 1 OUT (power) "OUTPUT Pin.", 2 SENSE (in), 3 GND (power), 4 ~{SHDN} (in) "Shutdown Pin.", 5 VIN (power) "Input Pin."

## LT1529CT-5
designator U?
3 A Low Dropout Regulator with Micropower Quiescent Current and Shutdown, 3.8 to 15 V Vin, 5 V Vout, 5-pin FM (T-5), 0 to 125 degC; Manufacturer: Linear Technology; PartNumber: LT1529CT-5; Discrete Pass Element: no; Dropout Voltage(V): 0.6; Iout(mA): 3000; Isupply(mA): 0.05; Number of Outputs: 1; Output Voltage: 5 V; PSRR(dB): 62; Shutdown Current(uA): 15; Vin Min(V): 3.8; DatasheetVersion: Rev. B; PackageVersion: Aug-10; PackageReference: T-5; PackageDescription: 5-Pin Plastic TO-220 (Standard), Body 10.224 x 8.89 mm, Pitch 1.7 mm; Supplier 1: Digi-Key; Supplier Part Number 1: LT1529CT-5-ND; RoHS: FALSE; Vin Max(V): 15; Mounting Technology: Through Hole; ComponentLink1Description: Manufacturer URL; ComponentLink1URL: http://www.linear.com/; ComponentLink2Description: Datasheet; ComponentLink2URL: http://cds.linear.com/docs/en/datasheet/1529fb.pdf; ComponentLink3Description: Package Specification; ComponentLink3URL: http://cds.linear.com/docs/en/packaging/TO-220_5_05-08-1421.pdf
footprint LT-T-5-S (FM, 5-Leads, Body 10.2235x4.3815mm, Pitch 1.7mm)
pins: 1 OUT (power) "OUTPUT Pin.", 2 SENSE (in), 3 GND (power), 4 ~{SHDN} (in) "Shutdown Pin.", 5 VIN (power) "Input Pin."

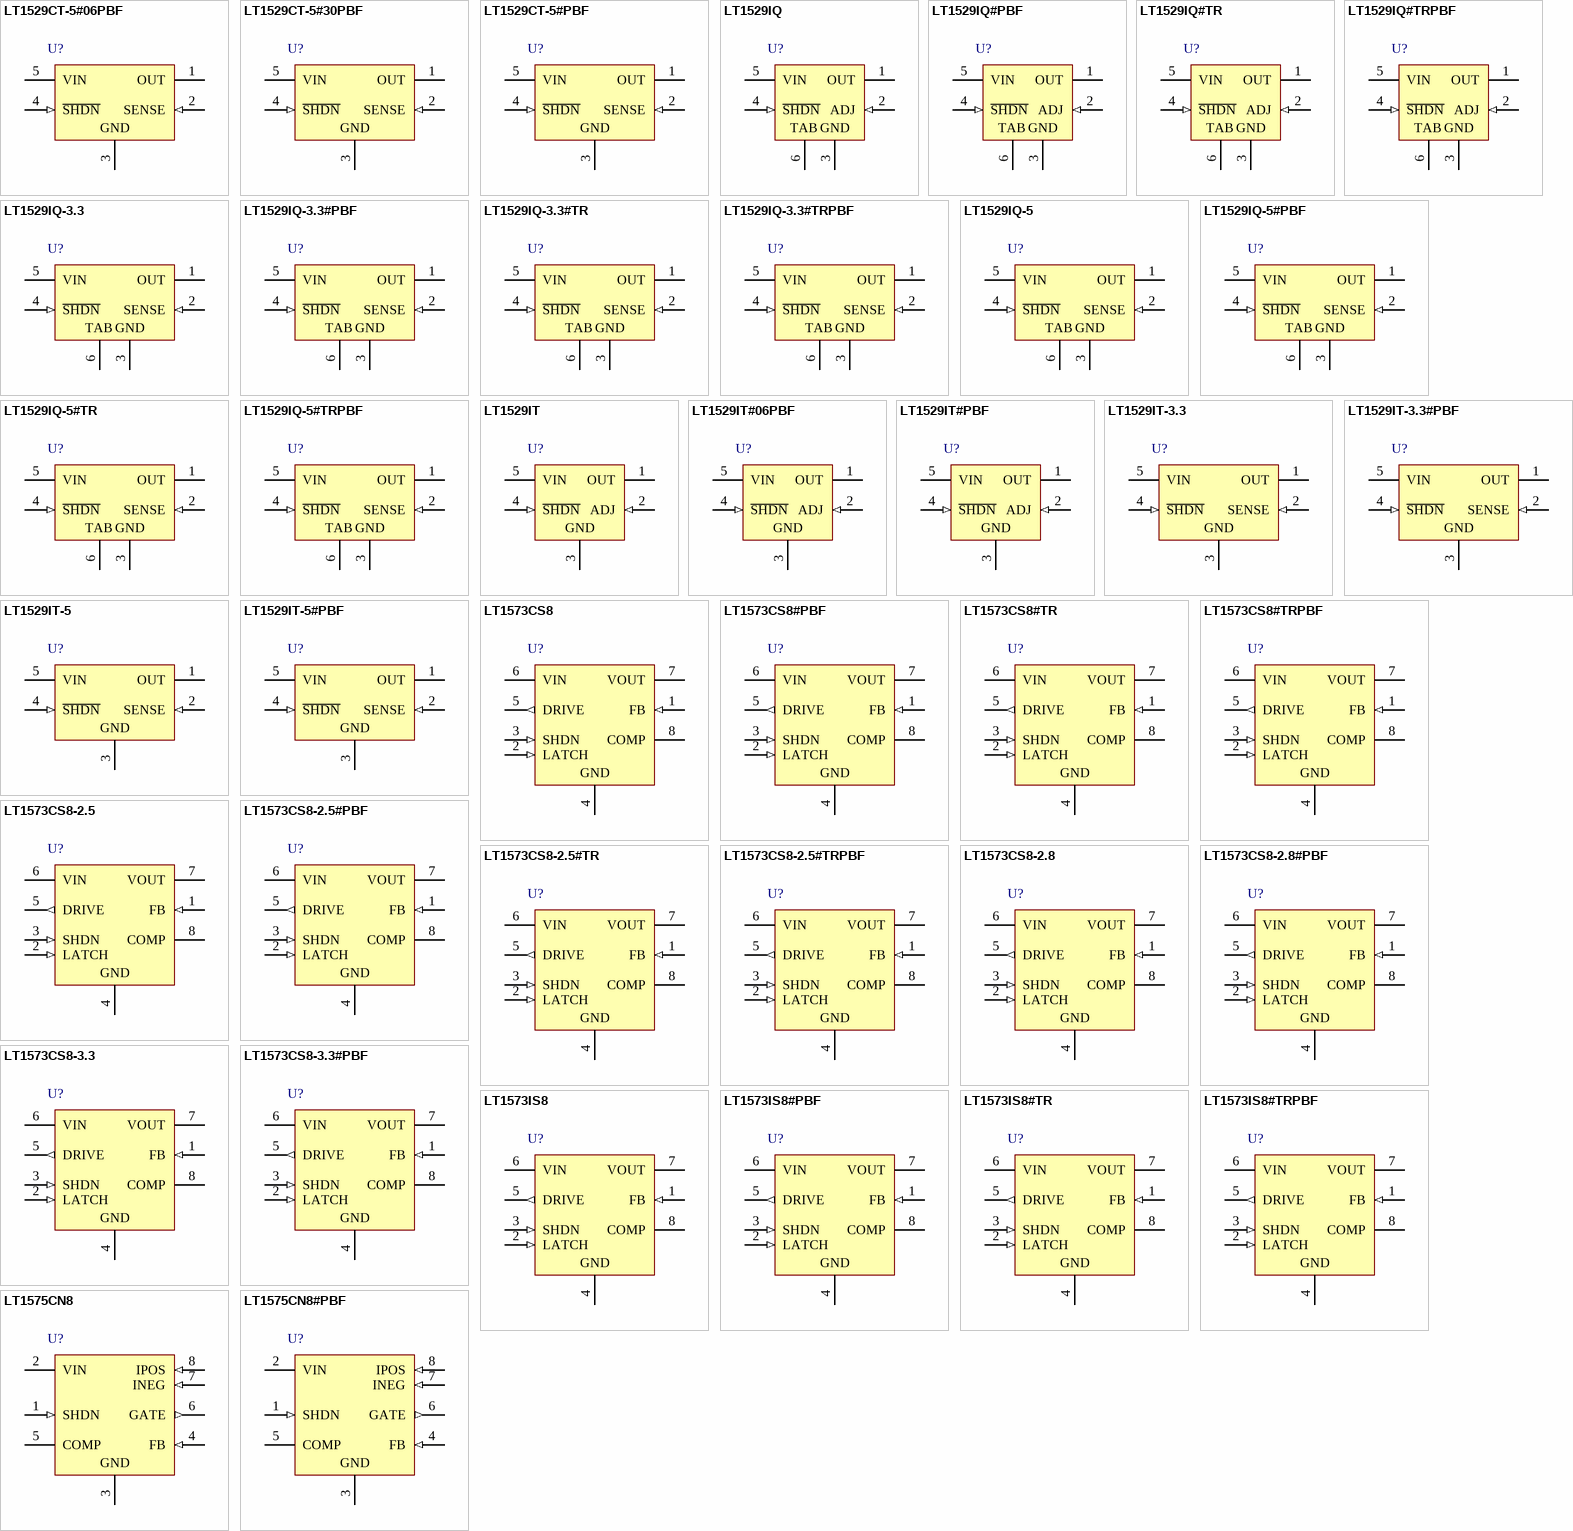
[diagram p16: symbols LT1529CT-5#06PBF to LT1575CN8#PBF]

## LT1529CT-5#06PBF
designator U?
3 A Low Dropout Regulator with Micropower Quiescent Current and Shutdown, 3.8 to 15 V Vin, 5 V Vout, 5-pin FM (T-5), 0 to 125 degC, Pb-Free; Manufacturer: Linear Technology; PartNumber: LT1529CT-5#06PBF; Discrete Pass Element: no; Dropout Voltage(V): 0.6; Iout(mA): 3000; Isupply(mA): 0.05; Number of Outputs: 1; Output Voltage: 5 V; PSRR(dB): 62; Shutdown Current(uA): 15; Vin Min(V): 3.8; DatasheetVersion: Rev. B; PackageVersion: Aug-10; PackageReference: T-5; PackageDescription: 5-Pin Plastic TO-220 (Standard), Body 10.224 x 8.89 mm, Pitch 1.7 mm; Supplier 1: Digi-Key; Supplier Part Number 1: LT1529CT-5#06PBF-ND; Supplier 2: Farnell; Supplier Part Number 2: 2252779; Supplier 3: Newark; Supplier Part Number 3: 72R5762; RoHS: TRUE; Vin Max(V): 15; Mounting Technology: Through Hole; ComponentLink1Description: Manufacturer URL; ComponentLink1URL: http://www.linear.com/; ComponentLink2Description: Datasheet; ComponentLink2URL: http://cds.linear.com/docs/en/datasheet/1529fb.pdf; ComponentLink3Description: Package Specification; ComponentLink3URL: http://cds.linear.com/docs/en/packaging/TO-220_5_05-08-1421.pdf
footprint LT-T-5-S (FM, 5-Leads, Body 10.2235x4.3815mm, Pitch 1.7mm)
pins: 1 OUT (power) "OUTPUT Pin.", 2 SENSE (in), 3 GND (power), 4 ~{SHDN} (in) "Shutdown Pin.", 5 VIN (power) "Input Pin."

## LT1529CT-5#30PBF
designator U?
3 A Low Dropout Regulator with Micropower Quiescent Current and Shutdown, 3.8 to 15 V Vin, 5 V Vout, 5-pin FM (T-5), 0 to 125 degC, Pb-Free; Manufacturer: Linear Technology; PartNumber: LT1529CT-5#30PBF; Discrete Pass Element: no; Dropout Voltage(V): 0.6; Iout(mA): 3000; Isupply(mA): 0.05; Number of Outputs: 1; Output Voltage: 5 V; PSRR(dB): 62; Shutdown Current(uA): 15; Vin Min(V): 3.8; DatasheetVersion: Rev. B; PackageVersion: Aug-10; PackageReference: T-5; PackageDescription: 5-Pin Plastic TO-220 (Standard), Body 10.224 x 8.89 mm, Pitch 1.7 mm; Supplier 1: Digi-Key; Supplier Part Number 1: LT1529CT-5#30PBF-ND; RoHS: TRUE; Vin Max(V): 15; Mounting Technology: Through Hole; ComponentLink1Description: Manufacturer URL; ComponentLink1URL: http://www.linear.com/; ComponentLink2Description: Datasheet; ComponentLink2URL: http://cds.linear.com/docs/en/datasheet/1529fb.pdf; ComponentLink3Description: Package Specification; ComponentLink3URL: http://cds.linear.com/docs/en/packaging/TO-220_5_05-08-1421.pdf
footprint LT-T-5-S (FM, 5-Leads, Body 10.2235x4.3815mm, Pitch 1.7mm)
pins: 1 OUT (power) "OUTPUT Pin.", 2 SENSE (in), 3 GND (power), 4 ~{SHDN} (in) "Shutdown Pin.", 5 VIN (power) "Input Pin."

## LT1529CT-5#PBF
designator U?
3 A Low Dropout Regulator with Micropower Quiescent Current and Shutdown, 3.8 to 15 V Vin, 5 V Vout, 5-pin FM (T-5), 0 to 125 degC, Pb-Free; Manufacturer: Linear Technology; PartNumber: LT1529CT-5#PBF; Discrete Pass Element: no; Dropout Voltage(V): 0.6; Iout(mA): 3000; Isupply(mA): 0.05; Number of Outputs: 1; Output Voltage: 5 V; PSRR(dB): 62; Shutdown Current(uA): 15; Vin Min(V): 3.8; DatasheetVersion: Rev. B; PackageVersion: Aug-10; PackageReference: T-5; PackageDescription: 5-Pin Plastic TO-220 (Standard), Body 10.224 x 8.89 mm, Pitch 1.7 mm; Supplier 1: Digi-Key; Supplier Part Number 1: LT1529CT-5#PBF-ND; Supplier 2: Farnell; Supplier Part Number 2: 1273585; Supplier 3: Newark; Supplier Part Number 3: 57M4819; RoHS: TRUE; Vin Max(V): 15; Mounting Technology: Through Hole; ComponentLink1Description: Manufacturer URL; ComponentLink1URL: http://www.linear.com/; ComponentLink2Description: Datasheet; ComponentLink2URL: http://cds.linear.com/docs/en/datasheet/1529fb.pdf; ComponentLink3Description: Package Specification; ComponentLink3URL: http://cds.linear.com/docs/en/packaging/TO-220_5_05-08-1421.pdf
footprint LT-T-5-S (FM, 5-Leads, Body 10.2235x4.3815mm, Pitch 1.7mm)
pins: 1 OUT (power) "OUTPUT Pin.", 2 SENSE (in), 3 GND (power), 4 ~{SHDN} (in) "Shutdown Pin.", 5 VIN (power) "Input Pin."

## LT1529IQ
designator U?
3 A Low Dropout Regulator with Micropower Quiescent Current and Shutdown, 3.8 to 15 V Vin, Adjustable Vout, 5-pin DPAK (Q-5), -45 to 125 degC; Manufacturer: Linear Technology; PartNumber: LT1529IQ; Discrete Pass Element: no; Dropout Voltage(V): 0.6; Iout(mA): 3000; Isupply(mA): 0.05; Number of Outputs: 1; Output Voltage: Adj; PSRR(dB): 62; Shutdown Current(uA): 15; Vin Min(V): 3.8; Vout Max(V): 14; DatasheetVersion: Rev. B; PackageVersion: Rev. F, 09/2011; PackageReference: Q-5; PackageDescription: 5-Pin Plastic DD Pak, Body 10.2235 x 8.89 mm, Pitch 1.702 mm; Supplier 1: Digi-Key; Supplier Part Number 1: LT1529IQ-ND; Supplier 2: Newark; Supplier Part Number 2: 57M4823; RoHS: FALSE; Vin Max(V): 15; Vout Min(V): 3.8; Mounting Technology: Surface Mount; ComponentLink1Description: Manufacturer URL; ComponentLink1URL: http://www.linear.com/; ComponentLink2Description: Datasheet; ComponentLink2URL: http://cds.linear.com/docs/en/datasheet/1529fb.pdf; ComponentLink3Description: Package Specification; ComponentLink3URL: http://cds.linear.com/docs/en/packaging/Q%20DD5%2005-08-1461%20Rev%20F.pdf
footprint LT-Q-5_N (DPAK, 5-Leads, Body 10.22x8.89mm, Pitch 1.702mm, IPC Medium Density)
footprint LT-Q-5_L (DPAK, 5-Leads, Body 10.22x8.89mm, Pitch 1.702mm, IPC High Density)
footprint LT-Q-5_M (DPAK, 5-Leads, Body 10.22x8.89mm, Pitch 1.702mm, IPC Low Density)
pins: 1 OUT (power) "OUTPUT Pin. The OUTPUT pin supplies power to the load. A minimum output capacitor of 22uF is required to prevent oscillations. Larger values will be required to optimize transient response for large load current deltas. See (See Datasheet)", 2 ADJ (in) "Adjust Pin. For the LT1529 (adjustable version) the ADJ pin is the input to the error amplifier. This pin is internally clamped to 6V and - 0.6V (one VBE). This pin has a bias current of 150nA which flows into the pin. See (See Datasheet)", 3 GND (power), 4 ~{SHDN} (in) "Shutdown Pin. This pin is used to put the device into shutdown. In shutdown the output of the device is turned off. This pin is active low. The device will be shut down if the S\H\D\N\ pin is actively pulled low. The (See Datasheet)", 5 VIN (power) "Input Pin. Power is supplied to the device through the VIN pin. The VIN pin should be bypassed to ground if the device is more than six inches away from the main input filter capacitor. In general, the output impedance of a (See Datasheet)", 6 TAB (power)